# Altium schematic symbol library SCH - PASSIVES - CHOKE.SCHLIB: 2 symbols
Pins are listed as number, name and electrical type; pins without a type are passive.

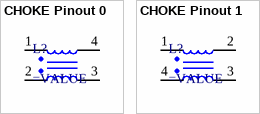
[diagram p0: symbols CHOKE Pinout 0 to CHOKE Pinout 1]

## CHOKE Pinout 0
designator L?
pins: 1, 2, 3, 4

## CHOKE Pinout 1
designator L?
pins: 1, 2, 3, 4